# Altium footprint library SQP.PcbLib: 1 footprints
Each footprint in its own frame and in the unit in brackets; x right, y up, seen from the top. Pads: shape width x height; smd on the part's side, far side on the other; paste and mask are expansions set on the pad; w line width, h text height; cw(c..) or ccw(c..) is an arc to the next point about the centre after c.
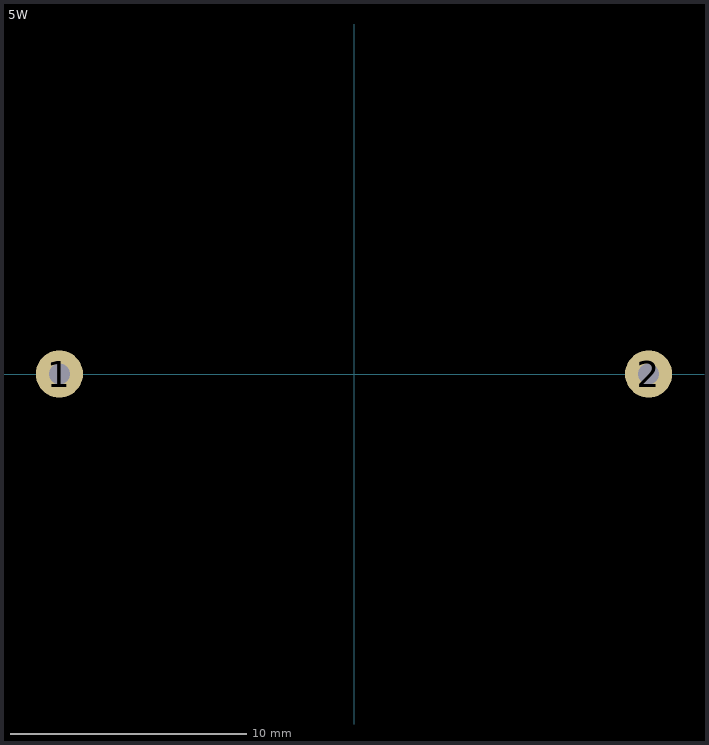
[diagram p0: the footprint, top view; thin cyan lines are the x and y axes]

## 5W [mm]
pads (2):
  round 2 hole 0.9: 1(-12.5,0) 2(12.5,0)
3D body: height 9.01, standoff -2.11, extent -12.907,-4.75 12.9,4.75